# EAGLE library part TPS65253RHDR (library TPS65253)
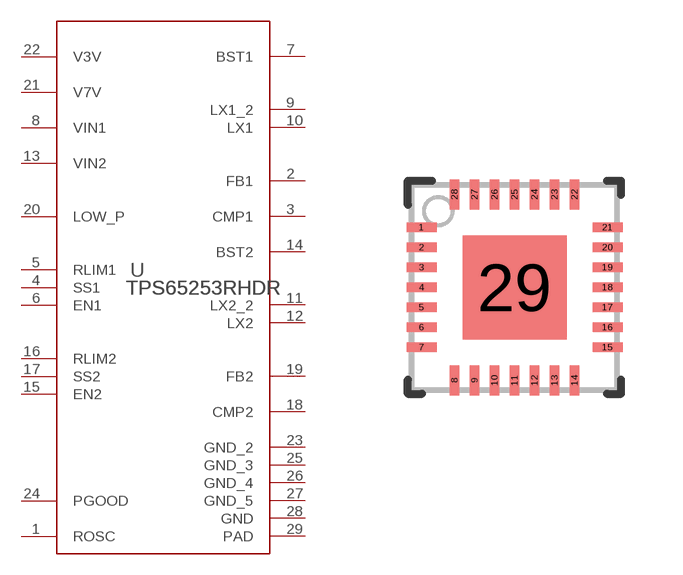
[diagram p0: symbol with the pads of RHD0028A; footprint RHD0028A]

Designator prefix U

## TPS65253RHDR (MANUFACTURER: Texas Instruments; PARTNUMBER: TPS65253RHDR; REFDES: RefDes; TYPE: TYPE; VALUE: Value)  [RHD0028A]
1  ROSC  in
2  FB1  in
3  CMP1  out
4  SS1  in
5  RLIM1  in
6  EN1  in
7  BST1  pwr
8  VIN1  pwr
9  LX1_2  pwr
10  LX1  pwr
11  LX2_2  pwr
12  LX2  pwr
13  VIN2  pwr
14  BST2  pwr
15  EN2  in
16  RLIM2  in
17  SS2  in
18  CMP2  out
19  FB2  in
20  LOW_P  in
21  V7V  pwr
22  V3V  pwr
23  GND_2  pwr
24  PGOOD  oc
25  GND_3  pwr
26  GND_4  pwr
27  GND_5  pwr
28  GND  pwr
29  PAD  pwr

## Footprint RHD0028A (pad centres in mm)
smd 0.75 x 0.24: 1 -2.325,1.5; 2 -2.325,1; 3 -2.325,0.5; 4 -2.325,0; 5 -2.325,-0.5; 6 -2.325,-1; 7 -2.325,-1.5; 15 2.325,-1.5; 16 2.325,-1; 17 2.325,-0.5; 18 2.325,0; 19 2.325,0.5; 20 2.325,1; 21 2.325,1.5
smd 0.24 x 0.75: 8 -1.5,-2.325; 9 -1,-2.325; 10 -0.5,-2.325; 11 0,-2.325; 12 0.5,-2.325; 13 1,-2.325; 14 1.5,-2.325; 22 1.5,2.325; 23 1,2.325; 24 0.5,2.325; 25 0,2.325; 26 -0.5,2.325; 27 -1,2.325; 28 -1.5,2.325
smd 2.6 x 2.6: 29 0,0